# Altium integrated library Analog Devices Data Converters Analog-to-Digital Converters.IntLib: 2404 symbols (part 96 of 346)
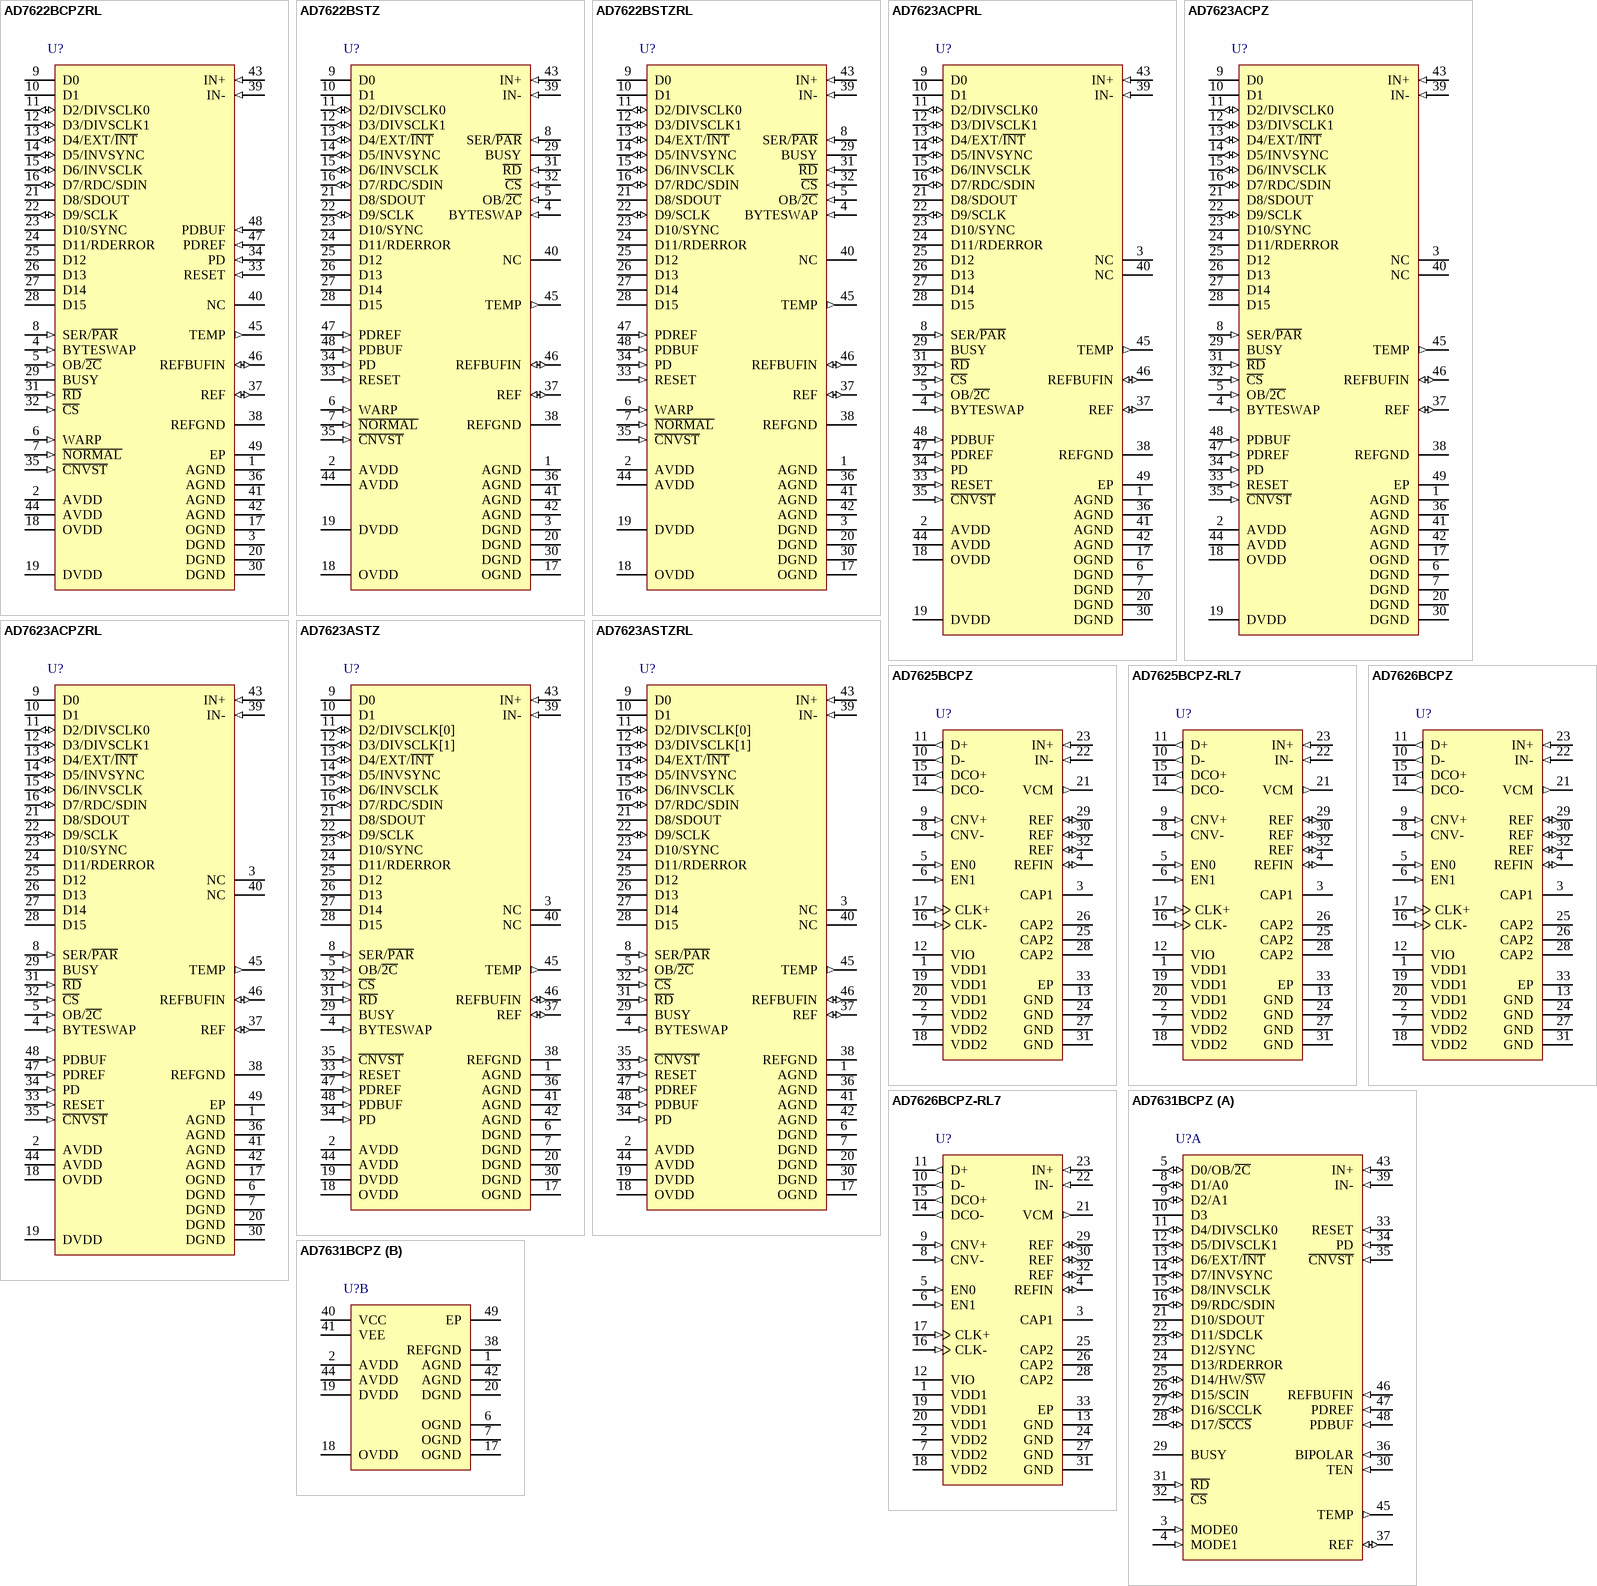
[diagram p208: symbols AD7622BCPZRL to AD7631BCPZ]

## AD7623ACPRL
designator U?
Single 16-Bit PulSAR Analog-to-Digital Converter with Byte, Parallel, Serial, SPI Interface, 1.33MSPS, -40 to +85 degC, CP-48-1, pb-Free, Reel; Generic Part Number: AD7623; Manufacturer: Analog Devices; PartNumber: AD7623ACPRL; Resolution (Bits): 16; Channels: 1; Throughput Rate (SPS): 1.33M; Interface: Byte, Par, Ser, SPI; DatasheetVersion: Rev.0; PackageVersion: Jan-2005; PackageReference: CP-48-1; PackageDescription: 48-Lead Lead Frame Chip Scale Package [LFCSP_VQ] 7 x 7 mm Body, Very Thin Quad; RoHS: N; Packing: Reel; Mounting Technology: Surface Mount; Code_JEDEC: MO-220-VKKD-2; ComponentLink1Description: Manufacturer URL; ComponentLink1URL: http://www.analog.com/en/index.html; ComponentLink2Description: Datasheet; ComponentLink2URL: http://www.analog.com/static/imported-files/data_sheets/AD7623.pdf; ComponentLink3Description: Package Specification; ComponentLink3URL: http://www.analog.com/static/imported-files/packages/PKG_PDF/LFCSP(CP)/CP-48/CP_48_1.pdf; ComponentLink4Description: Product URL; ComponentLink4URL: http://www.analog.com/en/analog-to-digital-converters/ad-converters/ad7623/products/product.html
footprint CP-48-1_N (QFN, 48-Leads, Body 7x7mm, Pitch 0.5mm, Thermal Pad 5.1x5.1mm, IPC Medium Density)
footprint CP-48-1_L (QFN, 48-Leads, Body 7x7mm, Pitch 0.5mm, Thermal Pad 5.1x5.1mm, IPC High Density)
footprint CP-48-1_M (QFN, 48-Leads, Body 7x7mm, Pitch 0.5mm, Thermal Pad 5.1x5.1mm, IPC Low Density)
pins: 1 AGND (power) "Analog Power Ground Pin.", 2 AVDD (power) "Input Analog Power Pins. Nominally 2.5 V.", 3 NC "No Connect.", 4 BYTESWAP (in) "Parallel Mode Selection (8-Bit/16-Bit). When high, the LSB is output on D[15:8] and the MSB is output on D[7:0]; when low, the LSB is output on D[7:0] and the MSB is output on D[15:8].", 5 OB/~{2C} (in) "Straight Binary/Binary Twos Complement Output. When high, the digital output is straight binary; when low, the MSB is inverted resulting in a twos complement output from its internal shift register.", 6 DGND (power) "Digital Power Ground.", 7 DGND (power) "Digital Power Ground.", 8 SER/~{PAR} (in) "Serial/Parallel Selection Input. When high, the serial interface is selected and some bits of the data bus are used as a serial port; the remaining data bits are high impedance outputs. When SER/P\A\R\ = low, the parallel (See Datasheet)", 9 D0 (hiz) "Bit 0 of the Parallel Port Data Output Bus.", 10 D1 (hiz) "Bit 1 of the Parallel Port Data Output Bus.", 11 D2/DIVSCLK0 (io) "When SER/P\A\R\ = low, these outputs are used as Bit 2 and Bit 3 of the parallel port data output bus.When SER/P\A\R\ = high, serial clock division selection. When using serial master read after convert mode (EXT/I\N\T\ = (See Datasheet)", 12 D3/DIVSCLK1 (io) "When SER/P\A\R\ = low, these outputs are used as Bit 2 and Bit 3 of the parallel port data output bus.When SER/P\A\R\ = high, serial clock division selection. When using serial master read after convert mode (EXT/I\N\T\ = (See Datasheet)", 13 D4/EXT/~{INT} (io) "When SER/P\A\R\ = low, this output is used as Bit 4 of the parallel port data output bus.When SER/P\A\R\ = high, serial clock source select. This input is used to select the internally generated (master ) or external (slave) (See Datasheet)", 14 D5/INVSYNC (io) "When SER/P\A\R\ = low, this output is used as Bit 5 of the parallel port data output bus.When SER/P\A\R\ = high, invert sync select. In serial master mode (EXT/I\N\T\ = low), this input is used to select the active state of (See Datasheet)", 15 D6/INVSCLK (io) "When SER/P\A\R\ = low, this output is used as Bit 6 of the parallel port data output bus.Invert SCLK Select. In all serial modes, this input is used to invert the SCLK signal.", 16 D7/RDC/SDIN (io) "Bit 7 of the Parallel Port Data Output Bus.When SER/P\A\R\ = high, read during convert. When using serial master mode (EXT/INT = low), RDC is used to select the read mode.When RDC = high, the previous conversion result is (See Datasheet)", 17 OGND (power) "Input/Output Interface Digital Power Ground.", 18 OVDD (power) "Input/Output Interface Digital Power. Nominally at the same supply as the supply of the host interface (2.5 V or 3 V).", 19 DVDD (power) "Digital Power. Nominally at 2.5 V.", 20 DGND (power) "Digital Power Ground.", 21 D8/SDOUT (hiz) "When SER/P\A\R\ = low, this output is used as Bit 8 of the parallel port data output bus.When SER/P\A\R\ = high, serial data output. In serial mode, this pin is used as the serial data output synchronized to SCLK. Conversion (See Datasheet)", 22 D9/SCLK (io) "Parallel Port Data Output Bus Bit 9. When SER/P\A\R\ = low, this output is used as Bit 9 of the parallel port data output bus.Serial Clock. When SER/P\A\R\ = high, serial clock. In all serial modes, this pin is used as the (See Datasheet)", 23 D10/SYNC (hiz) "When SER/P\A\R\ = low, this output is used as Bit 10 of the parallel port data output bus.When SER/P\A\R\ = high, frame synchronization. In serial master mode (EXT/I\N\T\= low), this output is used as a digital output frame (See Datasheet)", 24 D11/RDERROR (hiz) "Parallel Port Data Output Bus Bit 11. When SER/P\A\R\ = low, this output is used as Bit 11 of the parallel port data output bus.Read Error. When SER/P\A\R\ = high, read error. In serial slave mode (EXT/I\N\T\ = high), this (See Datasheet)", 25 D12 (hiz) "Bit 12 of the Parallel Port Data Output Bus.", 26 D13 (hiz) "Bit 13 of the Parallel Port Data Output Bus.", 27 D14 (hiz) "Bit 14 of the Parallel Port Data Output Bus.", 28 D15 (hiz) "Bit 15 of the Parallel Port Data Output Bus.", 29 BUSY (hiz) "Busy Output. Transitions high when a conversion is started, and remains high until the conversion is complete and the data is latched into the on-chip shift register. The falling edge of BUSY can be used as a data ready (See Datasheet)", 30 DGND (power) "Digital Power Ground.", 31 ~{RD} (in) "Read Data. When C\S\ and R\D\ are both low, the interface parallel or serial output bus is enabled.", 32 ~{CS} (in) "Chip Select. When C\S\ and R\D\ are both low, the interface parallel or serial output bus is enabled.C\S\ is also used to gate the external clock in slave serial mode.", 33 RESET (in) "Reset Input. When high, reset the AD7623. Current conversion if any is aborted. Falling edge of RESET enables the calibration mode indicated by pulsing BUSY high. Refer to the Digital Interface section. If not used, this pin (See Datasheet)", 34 PD (in) "Power-Down Input. When high, power down the ADC. Power consumption is reduced and conversions are inhibited after the current one is completed.", 35 ~{CNVST} (in) "Conversion Start. A falling edge on C\N\V\S\T\ puts the internal sample-and-hold into the hold state and initiates a conversion.", 36 AGND (power) "Analog Power Ground Pin.", 37 REF (io) "Reference Output/Input. When PDREF/PDBUF = low, the internal reference and buffer are enabled, producing 2.048 V on this pin. When PDREF/PDBUF = high, the internal reference and buffer are disabled, allowing an externally (See Datasheet)", 38 REFGND (power) "Reference Input Analog Ground.", 39 IN- (in) "Differential Negative Analog Input.", 40 NC "No Connect.", 41 AGND (power) "Analog Power Ground Pin.", 42 AGND (power) "Analog Power Ground Pin.", 43 IN+ (in) "Differential Positive Analog Input.", 44 AVDD (power) "Input Analog Power Pins. Nominally 2.5 V.", 45 TEMP (out) "Temperature Sensor Analog Output.", 46 REFBUFIN (io) "Internal Reference Output/Reference Buffer Input. When PDREF/PDBUF = low, the internal reference and buffer are enabled, producing the 1.2 V (typical) band gap output on this pin, which needs external decoupling. The (See Datasheet)", 47 PDREF (in) "Internal Reference Power-Down Input. When low, the internal reference is enabled. When high, the internal reference is powered down, and an external reference must be used.", 48 PDBUF (in) "Internal Reference Buffer Power-Down Input. When low, the buffer is enabled (must be low when using internal reference). When high, the buffer is powered-down.", 49 EP (power) "Paddle connected to GND.This connection is not required to meet the electrical performances."

## AD7623ACPZ
designator U?
Single 16-Bit PulSAR Analog-to-Digital Converter with Byte, Parallel, Serial, SPI Interface, 1.33MSPS, -40 to +85 degC, CP-48-1, Pb-Free, Tray; Generic Part Number: AD7623; Manufacturer: Analog Devices; PartNumber: AD7623ACPZ; Resolution (Bits): 16; Channels: 1; Throughput Rate (SPS): 1.33M; Interface: Byte, Par, Ser, SPI; DatasheetVersion: Rev.0; PackageVersion: Jan-2005; PackageReference: CP-48-1; PackageDescription: 48-Lead Lead Frame Chip Scale Package [LFCSP_VQ] 7 x 7 mm Body, Very Thin Quad; Supplier 1: Digi-Key; Supplier Part Number 1: AD7623ACPZ-ND; Supplier 2: Mouser; Supplier Part Number 2: 584-AD7623ACPZ; RoHS: Y; Packing: Tray; Mounting Technology: Surface Mount; Code_JEDEC: MO-220-VKKD-2; ComponentLink1Description: Manufacturer URL; ComponentLink1URL: http://www.analog.com/en/index.html; ComponentLink2Description: Datasheet; ComponentLink2URL: http://www.analog.com/static/imported-files/data_sheets/AD7623.pdf; ComponentLink3Description: Package Specification; ComponentLink3URL: http://www.analog.com/static/imported-files/packages/PKG_PDF/LFCSP(CP)/CP-48/CP_48_1.pdf; ComponentLink4Description: Product URL; ComponentLink4URL: http://www.analog.com/en/analog-to-digital-converters/ad-converters/ad7623/products/product.html
footprint CP-48-1_N (QFN, 48-Leads, Body 7x7mm, Pitch 0.5mm, Thermal Pad 5.1x5.1mm, IPC Medium Density)
footprint CP-48-1_L (QFN, 48-Leads, Body 7x7mm, Pitch 0.5mm, Thermal Pad 5.1x5.1mm, IPC High Density)
footprint CP-48-1_M (QFN, 48-Leads, Body 7x7mm, Pitch 0.5mm, Thermal Pad 5.1x5.1mm, IPC Low Density)
pins: 1 AGND (power) "Analog Power Ground Pin.", 2 AVDD (power) "Input Analog Power Pins. Nominally 2.5 V.", 3 NC "No Connect.", 4 BYTESWAP (in) "Parallel Mode Selection (8-Bit/16-Bit). When high, the LSB is output on D[15:8] and the MSB is output on D[7:0]; when low, the LSB is output on D[7:0] and the MSB is output on D[15:8].", 5 OB/~{2C} (in) "Straight Binary/Binary Twos Complement Output. When high, the digital output is straight binary; when low, the MSB is inverted resulting in a twos complement output from its internal shift register.", 6 DGND (power) "Digital Power Ground.", 7 DGND (power) "Digital Power Ground.", 8 SER/~{PAR} (in) "Serial/Parallel Selection Input. When high, the serial interface is selected and some bits of the data bus are used as a serial port; the remaining data bits are high impedance outputs. When SER/P\A\R\ = low, the parallel (See Datasheet)", 9 D0 (hiz) "Bit 0 of the Parallel Port Data Output Bus.", 10 D1 (hiz) "Bit 1 of the Parallel Port Data Output Bus.", 11 D2/DIVSCLK0 (io) "When SER/P\A\R\ = low, these outputs are used as Bit 2 and Bit 3 of the parallel port data output bus.When SER/P\A\R\ = high, serial clock division selection. When using serial master read after convert mode (EXT/I\N\T\ = (See Datasheet)", 12 D3/DIVSCLK1 (io) "When SER/P\A\R\ = low, these outputs are used as Bit 2 and Bit 3 of the parallel port data output bus.When SER/P\A\R\ = high, serial clock division selection. When using serial master read after convert mode (EXT/I\N\T\ = (See Datasheet)", 13 D4/EXT/~{INT} (io) "When SER/P\A\R\ = low, this output is used as Bit 4 of the parallel port data output bus.When SER/P\A\R\ = high, serial clock source select. This input is used to select the internally generated (master ) or external (slave) (See Datasheet)", 14 D5/INVSYNC (io) "When SER/P\A\R\ = low, this output is used as Bit 5 of the parallel port data output bus.When SER/P\A\R\ = high, invert sync select. In serial master mode (EXT/I\N\T\ = low), this input is used to select the active state of (See Datasheet)", 15 D6/INVSCLK (io) "When SER/P\A\R\ = low, this output is used as Bit 6 of the parallel port data output bus.Invert SCLK Select. In all serial modes, this input is used to invert the SCLK signal.", 16 D7/RDC/SDIN (io) "Bit 7 of the Parallel Port Data Output Bus.When SER/P\A\R\ = high, read during convert. When using serial master mode (EXT/INT = low), RDC is used to select the read mode.When RDC = high, the previous conversion result is (See Datasheet)", 17 OGND (power) "Input/Output Interface Digital Power Ground.", 18 OVDD (power) "Input/Output Interface Digital Power. Nominally at the same supply as the supply of the host interface (2.5 V or 3 V).", 19 DVDD (power) "Digital Power. Nominally at 2.5 V.", 20 DGND (power) "Digital Power Ground.", 21 D8/SDOUT (hiz) "When SER/P\A\R\ = low, this output is used as Bit 8 of the parallel port data output bus.When SER/P\A\R\ = high, serial data output. In serial mode, this pin is used as the serial data output synchronized to SCLK. Conversion (See Datasheet)", 22 D9/SCLK (io) "Parallel Port Data Output Bus Bit 9. When SER/P\A\R\ = low, this output is used as Bit 9 of the parallel port data output bus.Serial Clock. When SER/P\A\R\ = high, serial clock. In all serial modes, this pin is used as the (See Datasheet)", 23 D10/SYNC (hiz) "When SER/P\A\R\ = low, this output is used as Bit 10 of the parallel port data output bus.When SER/P\A\R\ = high, frame synchronization. In serial master mode (EXT/I\N\T\= low), this output is used as a digital output frame (See Datasheet)", 24 D11/RDERROR (hiz) "Parallel Port Data Output Bus Bit 11. When SER/P\A\R\ = low, this output is used as Bit 11 of the parallel port data output bus.Read Error. When SER/P\A\R\ = high, read error. In serial slave mode (EXT/I\N\T\ = high), this (See Datasheet)", 25 D12 (hiz) "Bit 12 of the Parallel Port Data Output Bus.", 26 D13 (hiz) "Bit 13 of the Parallel Port Data Output Bus.", 27 D14 (hiz) "Bit 14 of the Parallel Port Data Output Bus.", 28 D15 (hiz) "Bit 15 of the Parallel Port Data Output Bus.", 29 BUSY (hiz) "Busy Output. Transitions high when a conversion is started, and remains high until the conversion is complete and the data is latched into the on-chip shift register. The falling edge of BUSY can be used as a data ready (See Datasheet)", 30 DGND (power) "Digital Power Ground.", 31 ~{RD} (in) "Read Data. When C\S\ and R\D\ are both low, the interface parallel or serial output bus is enabled.", 32 ~{CS} (in) "Chip Select. When C\S\ and R\D\ are both low, the interface parallel or serial output bus is enabled.C\S\ is also used to gate the external clock in slave serial mode.", 33 RESET (in) "Reset Input. When high, reset the AD7623. Current conversion if any is aborted. Falling edge of RESET enables the calibration mode indicated by pulsing BUSY high. Refer to the Digital Interface section. If not used, this pin (See Datasheet)", 34 PD (in) "Power-Down Input. When high, power down the ADC. Power consumption is reduced and conversions are inhibited after the current one is completed.", 35 ~{CNVST} (in) "Conversion Start. A falling edge on C\N\V\S\T\ puts the internal sample-and-hold into the hold state and initiates a conversion.", 36 AGND (power) "Analog Power Ground Pin.", 37 REF (io) "Reference Output/Input. When PDREF/PDBUF = low, the internal reference and buffer are enabled, producing 2.048 V on this pin. When PDREF/PDBUF = high, the internal reference and buffer are disabled, allowing an externally (See Datasheet)", 38 REFGND (power) "Reference Input Analog Ground.", 39 IN- (in) "Differential Negative Analog Input.", 40 NC "No Connect.", 41 AGND (power) "Analog Power Ground Pin.", 42 AGND (power) "Analog Power Ground Pin.", 43 IN+ (in) "Differential Positive Analog Input.", 44 AVDD (power) "Input Analog Power Pins. Nominally 2.5 V.", 45 TEMP (out) "Temperature Sensor Analog Output.", 46 REFBUFIN (io) "Internal Reference Output/Reference Buffer Input. When PDREF/PDBUF = low, the internal reference and buffer are enabled, producing the 1.2 V (typical) band gap output on this pin, which needs external decoupling. The (See Datasheet)", 47 PDREF (in) "Internal Reference Power-Down Input. When low, the internal reference is enabled. When high, the internal reference is powered down, and an external reference must be used.", 48 PDBUF (in) "Internal Reference Buffer Power-Down Input. When low, the buffer is enabled (must be low when using internal reference). When high, the buffer is powered-down.", 49 EP (power) "Paddle connected to GND.This connection is not required to meet the electrical performances."

## AD7623ACPZRL
designator U?
Single 16-Bit PulSAR Analog-to-Digital Converter with Byte, Parallel, Serial, SPI Interface, 1.33MSPS, -40 to +85 degC, CP-48-1, Pb-Free, Reel; Generic Part Number: AD7623; Manufacturer: Analog Devices; PartNumber: AD7623ACPZRL; Resolution (Bits): 16; Channels: 1; Throughput Rate (SPS): 1.33M; Interface: Byte, Par, Ser, SPI; DatasheetVersion: Rev.0; PackageVersion: Jan-2005; PackageReference: CP-48-1; PackageDescription: 48-Lead Lead Frame Chip Scale Package [LFCSP_VQ] 7 x 7 mm Body, Very Thin Quad; Supplier 1: Digi-Key; Supplier Part Number 1: AD7623ACPZRL-ND; Supplier 2: Mouser; Supplier Part Number 2: 584-AD7623ACPZR; RoHS: Y; Packing: Reel; Mounting Technology: Surface Mount; Code_JEDEC: MO-220-VKKD-2; ComponentLink1Description: Manufacturer URL; ComponentLink1URL: http://www.analog.com/en/index.html; ComponentLink2Description: Datasheet; ComponentLink2URL: http://www.analog.com/static/imported-files/data_sheets/AD7623.pdf; ComponentLink3Description: Package Specification; ComponentLink3URL: http://www.analog.com/static/imported-files/packages/PKG_PDF/LFCSP(CP)/CP-48/CP_48_1.pdf; ComponentLink4Description: Product URL; ComponentLink4URL: http://www.analog.com/en/analog-to-digital-converters/ad-converters/ad7623/products/product.html
footprint CP-48-1_N (QFN, 48-Leads, Body 7x7mm, Pitch 0.5mm, Thermal Pad 5.1x5.1mm, IPC Medium Density)
footprint CP-48-1_L (QFN, 48-Leads, Body 7x7mm, Pitch 0.5mm, Thermal Pad 5.1x5.1mm, IPC High Density)
footprint CP-48-1_M (QFN, 48-Leads, Body 7x7mm, Pitch 0.5mm, Thermal Pad 5.1x5.1mm, IPC Low Density)
pins: 1 AGND (power) "Analog Power Ground Pin.", 2 AVDD (power) "Input Analog Power Pins. Nominally 2.5 V.", 3 NC "No Connect.", 4 BYTESWAP (in) "Parallel Mode Selection (8-Bit/16-Bit). When high, the LSB is output on D[15:8] and the MSB is output on D[7:0]; when low, the LSB is output on D[7:0] and the MSB is output on D[15:8].", 5 OB/~{2C} (in) "Straight Binary/Binary Twos Complement Output. When high, the digital output is straight binary; when low, the MSB is inverted resulting in a twos complement output from its internal shift register.", 6 DGND (power) "Digital Power Ground.", 7 DGND (power) "Digital Power Ground.", 8 SER/~{PAR} (in) "Serial/Parallel Selection Input. When high, the serial interface is selected and some bits of the data bus are used as a serial port; the remaining data bits are high impedance outputs. When SER/P\A\R\ = low, the parallel (See Datasheet)", 9 D0 (hiz) "Bit 0 of the Parallel Port Data Output Bus.", 10 D1 (hiz) "Bit 1 of the Parallel Port Data Output Bus.", 11 D2/DIVSCLK0 (io) "When SER/P\A\R\ = low, these outputs are used as Bit 2 and Bit 3 of the parallel port data output bus.When SER/P\A\R\ = high, serial clock division selection. When using serial master read after convert mode (EXT/I\N\T\ = (See Datasheet)", 12 D3/DIVSCLK1 (io) "When SER/P\A\R\ = low, these outputs are used as Bit 2 and Bit 3 of the parallel port data output bus.When SER/P\A\R\ = high, serial clock division selection. When using serial master read after convert mode (EXT/I\N\T\ = (See Datasheet)", 13 D4/EXT/~{INT} (io) "When SER/P\A\R\ = low, this output is used as Bit 4 of the parallel port data output bus.When SER/P\A\R\ = high, serial clock source select. This input is used to select the internally generated (master ) or external (slave) (See Datasheet)", 14 D5/INVSYNC (io) "When SER/P\A\R\ = low, this output is used as Bit 5 of the parallel port data output bus.When SER/P\A\R\ = high, invert sync select. In serial master mode (EXT/I\N\T\ = low), this input is used to select the active state of (See Datasheet)", 15 D6/INVSCLK (io) "When SER/P\A\R\ = low, this output is used as Bit 6 of the parallel port data output bus.Invert SCLK Select. In all serial modes, this input is used to invert the SCLK signal.", 16 D7/RDC/SDIN (io) "Bit 7 of the Parallel Port Data Output Bus.When SER/P\A\R\ = high, read during convert. When using serial master mode (EXT/INT = low), RDC is used to select the read mode.When RDC = high, the previous conversion result is (See Datasheet)", 17 OGND (power) "Input/Output Interface Digital Power Ground.", 18 OVDD (power) "Input/Output Interface Digital Power. Nominally at the same supply as the supply of the host interface (2.5 V or 3 V).", 19 DVDD (power) "Digital Power. Nominally at 2.5 V.", 20 DGND (power) "Digital Power Ground.", 21 D8/SDOUT (hiz) "When SER/P\A\R\ = low, this output is used as Bit 8 of the parallel port data output bus.When SER/P\A\R\ = high, serial data output. In serial mode, this pin is used as the serial data output synchronized to SCLK. Conversion (See Datasheet)", 22 D9/SCLK (io) "Parallel Port Data Output Bus Bit 9. When SER/P\A\R\ = low, this output is used as Bit 9 of the parallel port data output bus.Serial Clock. When SER/P\A\R\ = high, serial clock. In all serial modes, this pin is used as the (See Datasheet)", 23 D10/SYNC (hiz) "When SER/P\A\R\ = low, this output is used as Bit 10 of the parallel port data output bus.When SER/P\A\R\ = high, frame synchronization. In serial master mode (EXT/I\N\T\= low), this output is used as a digital output frame (See Datasheet)", 24 D11/RDERROR (hiz) "Parallel Port Data Output Bus Bit 11. When SER/P\A\R\ = low, this output is used as Bit 11 of the parallel port data output bus.Read Error. When SER/P\A\R\ = high, read error. In serial slave mode (EXT/I\N\T\ = high), this (See Datasheet)", 25 D12 (hiz) "Bit 12 of the Parallel Port Data Output Bus.", 26 D13 (hiz) "Bit 13 of the Parallel Port Data Output Bus.", 27 D14 (hiz) "Bit 14 of the Parallel Port Data Output Bus.", 28 D15 (hiz) "Bit 15 of the Parallel Port Data Output Bus.", 29 BUSY (hiz) "Busy Output. Transitions high when a conversion is started, and remains high until the conversion is complete and the data is latched into the on-chip shift register. The falling edge of BUSY can be used as a data ready (See Datasheet)", 30 DGND (power) "Digital Power Ground.", 31 ~{RD} (in) "Read Data. When C\S\ and R\D\ are both low, the interface parallel or serial output bus is enabled.", 32 ~{CS} (in) "Chip Select. When C\S\ and R\D\ are both low, the interface parallel or serial output bus is enabled.C\S\ is also used to gate the external clock in slave serial mode.", 33 RESET (in) "Reset Input. When high, reset the AD7623. Current conversion if any is aborted. Falling edge of RESET enables the calibration mode indicated by pulsing BUSY high. Refer to the Digital Interface section. If not used, this pin (See Datasheet)", 34 PD (in) "Power-Down Input. When high, power down the ADC. Power consumption is reduced and conversions are inhibited after the current one is completed.", 35 ~{CNVST} (in) "Conversion Start. A falling edge on C\N\V\S\T\ puts the internal sample-and-hold into the hold state and initiates a conversion.", 36 AGND (power) "Analog Power Ground Pin.", 37 REF (io) "Reference Output/Input. When PDREF/PDBUF = low, the internal reference and buffer are enabled, producing 2.048 V on this pin. When PDREF/PDBUF = high, the internal reference and buffer are disabled, allowing an externally (See Datasheet)", 38 REFGND (power) "Reference Input Analog Ground.", 39 IN- (in) "Differential Negative Analog Input.", 40 NC "No Connect.", 41 AGND (power) "Analog Power Ground Pin.", 42 AGND (power) "Analog Power Ground Pin.", 43 IN+ (in) "Differential Positive Analog Input.", 44 AVDD (power) "Input Analog Power Pins. Nominally 2.5 V.", 45 TEMP (out) "Temperature Sensor Analog Output.", 46 REFBUFIN (io) "Internal Reference Output/Reference Buffer Input. When PDREF/PDBUF = low, the internal reference and buffer are enabled, producing the 1.2 V (typical) band gap output on this pin, which needs external decoupling. The (See Datasheet)", 47 PDREF (in) "Internal Reference Power-Down Input. When low, the internal reference is enabled. When high, the internal reference is powered down, and an external reference must be used.", 48 PDBUF (in) "Internal Reference Buffer Power-Down Input. When low, the buffer is enabled (must be low when using internal reference). When high, the buffer is powered-down.", 49 EP (power) "Paddle connected to GND.This connection is not required to meet the electrical performances."

## AD7623ASTZ
designator U?
Single 16-Bit PulSAR Analog-to-Digital Converter with Byte, Parallel, Serial, SPI Interface, 1.33MSPS, -40 to +85 degC, ST-48, Pb-Free, Tray; Generic Part Number: AD7623; Manufacturer: Analog Devices; PartNumber: AD7623ASTZ; Resolution (Bits): 16; Channels: 1; Throughput Rate (SPS): 1.33M; Interface: Byte, Par, Ser, SPI; DatasheetVersion: Rev.0; PackageVersion: revA; PackageReference: ST-48; PackageDescription: 48-Pin Thin Quad Flat Pack 0.5 mm Pitch; Supplier 1: Digi-Key; Supplier Part Number 1: AD7623ASTZ-ND; Supplier 2: Mouser; Supplier Part Number 2: 584-AD7623ASTZ; RoHS: Y; Packing: Tray; Mounting Technology: Surface Mount; ComponentLink1Description: Manufacturer URL; ComponentLink1URL: http://www.analog.com/en/index.html; ComponentLink2Description: Datasheet; ComponentLink2URL: http://www.analog.com/static/imported-files/data_sheets/AD7623.pdf; ComponentLink3Description: Package Specification; ComponentLink3URL: http://www.analog.com/static/imported-files/packages/PKG_PDF/LQFP%28ST%29/ST_48.pdf; ComponentLink4Description: Product URL; ComponentLink4URL: http://www.analog.com/en/analog-to-digital-converters/ad-converters/ad7623/products/product.html
footprint ST-48_N (Thin QFP, 48-Leads, Body 7x7mm, Pitch 0.5mm, IPC Medium Density)
footprint ST-48_L (Thin QFP, 48-Leads, Body 7x7mm, Pitch 0.5mm, IPC High Density)
footprint ST-48_M (Thin QFP, 48-Leads, Body 7x7mm, Pitch 0.5mm, IPC Low Density)
pins: 1 AGND (power) "Analog Power Ground Pin.", 2 AVDD (power) "Input Analog Power Pins. Nominally 2.5 V.", 3 NC "No Connect.", 4 BYTESWAP (in) "Parallel Mode Selection (8-Bit/16-Bit). When high, the LSB is output on D[15:8] and the MSB is output on D[7:0]; when low, the LSB is output on D[7:0] and the MSB is output on D[15:8].", 5 OB/~{2C} (in) "Straight Binary/Binary Twos Complement Output. When high, the digital output is straight binary; when low, the MSB is inverted resulting in a twos complement output from its internal shift register.", 6 DGND (power) "Digital Power Ground.", 7 DGND (power) "Digital Power Ground.", 8 SER/~{PAR} (in) "Serial/Parallel Selection Input. When high, the serial interface is selected and some bits of the data bus are used as a serial port; the remaining data bits are high impedance outputs. When SER/P\A\R\ = low, the parallel (See Datasheet)", 9 D0 (hiz) "Bit 0 and Bit 1 of the Parallel Port Data Output Bus.", 10 D1 (hiz) "Bit 0 and Bit 1 of the Parallel Port Data Output Bus.", 11 D2/DIVSCLK[0] (io) "When SER/P\A\R\ = low, these outputs are used as Bit 2 and Bit 3 of the parallel port data output bus.When SER/P\A\R\= high, serial clock division selection. When using serial master read after convert mode (EXT/I\N\T\ = (See Datasheet)", 12 D3/DIVSCLK[1] (io) "When SER/P\A\R\ = low, these outputs are used as Bit 2 and Bit 3 of the parallel port data output bus.When SER/P\A\R\= high, serial clock division selection. When using serial master read after convert mode (EXT/I\N\T\ = (See Datasheet)", 13 D4/EXT/~{INT} (io) "When SER/P\A\R\ = low, this output is used as Bit 4 of the parallel port data output bus. When SER/P\A\R\ = high, serial clock source select. This input is used to select the internally generated (master ) or external (See Datasheet)", 14 D5/INVSYNC (io) "When SER/P\A\R\ = low, this output is used as Bit 5 of the parallel port data output bus. When SER/P\A\R\ = high, invert sync select. In serial master mode (EXT/I\N\T\ = low), this input is used to select the active state of (See Datasheet)", 15 D6/INVSCLK (io) "When SER/P\A\R\ = low, this output is used as Bit 6 of the parallel port data output bus. Invert SCLK Select. In all serial modes, this input is used to invert the SCLK signal.", 16 D7/RDC/SDIN (io) "Bit 7 of the Parallel Port Data Output Bus. When SER/P\A\R\ = high, read during convert. When using serial master mode (EXT/INT = low), RDC is used to select the read mode. When RDC = high, the previous conversion result is (See Datasheet)", 17 OGND (power) "Input/Output Interface Digital Power Ground.", 18 OVDD (power) "Input/Output Interface Digital Power. Nominally at the same supply as the supply of the host interface (2.5 V or 3 V).", 19 DVDD (power) "Digital Power. Nominally at 2.5 V.", 20 DGND (power) "Digital Power Ground.", 21 D8/SDOUT (hiz) "When SER/P\A\R\ = low, this output is used as Bit 8 of the parallel port data output bus. When SER/P\A\R\ = high, serial data output. In serial mode, this pin is used as the serial data output synchronized to SCLK. (See Datasheet)", 22 D9/SCLK (io) "Parallel Port Data Output Bus Bit 9. When SER/P\A\R\ = low, this output is used as Bit 9 of the parallel port data output bus. Serial Clock. When SER/P\A\R\ = high, serial clock. In all serial modes, this pin is used as the (See Datasheet)", 23 D10/SYNC (hiz) "When SER/P\A\R\ = low, this output is used as Bit 10 of the parallel port data output bus. When SER/P\A\R\ = high, frame synchronization. In serial master mode (EXT/I\N\T\= low), this output is used as a digital output frame (See Datasheet)", 24 D11/RDERROR (hiz) "Parallel Port Data Output Bus Bit 11. When SER/P\A\R\ = low, this output is used as Bit 11 of the parallel port data output bus. Read Error. When SER/PAR = high, read error. In serial slave mode (EXT/I\N\T\ = high), this (See Datasheet)", 25 D12 (hiz) "Bit 12 to Bit 15 of the Parallel Port Data Output Bus.", 26 D13 (hiz) "Bit 12 to Bit 15 of the Parallel Port Data Output Bus.", 27 D14 (hiz) "Bit 12 to Bit 15 of the Parallel Port Data Output Bus.", 28 D15 (hiz) "Bit 12 to Bit 15 of the Parallel Port Data Output Bus.", 29 BUSY (hiz) "Busy Output. Transitions high when a conversion is started, and remains high until the conversion is complete and the data is latched into the on-chip shift register. The falling edge of BUSY can be used as a data ready (See Datasheet)", 30 DGND (power) "Digital Power Ground.", 31 ~{RD} (in) "Read Data. When C\S\ and R\D\ are both low, the interface parallel or serial output bus is enabled.", 32 ~{CS} (in) "Chip Select. When C\S\ and R\D\ are both low, the interface parallel or serial output bus is enabled. C\S\ is also used to gate the external clock in slave serial mode.", 33 RESET (in) "Reset Input. When high, reset the AD7623. Current conversion if any is aborted. Falling edge of RESET enables the calibration mode indicated by pulsing BUSY high. Refer to the Digital Interface section. If not used, this pin (See Datasheet)", 34 PD (in) "Power-Down Input. When high, power down the ADC. Power consumption is reduced and conversions are inhibited after the current one is completed.", 35 ~{CNVST} (in) "Conversion Start. A falling edge on CNVST puts the internal sample-and-hold into the hold state and initiates a conversion.", 36 AGND (power) "Analog Power Ground Pin.", 37 REF (io) "Reference Output/Input. When PDREF/PDBUF = low, the internal reference and buffer are enabled, producing 2.048 V on this pin. When PDREF/PDBUF = high, the internal reference and buffer are disabled, allowing an externally (See Datasheet)", 38 REFGND (power) "Reference Input Analog Ground.", 39 IN- (in) "Differential Negative Analog Input.", 40 NC "No Connect.", 41 AGND (power) "Analog Power Ground Pin.", 42 AGND (power) "Analog Power Ground Pin.", 43 IN+ (in) "Differential Positive Analog Input.", 44 AVDD (power) "Input Analog Power Pins. Nominally 2.5 V.", 45 TEMP (out) "Temperature Sensor Analog Output.", 46 REFBUFIN (io) "Internal Reference Output/Reference Buffer Input. When PDREF/PDBUF = low, the internal reference and buffer are enabled, producing the 1.2 V (typical) band gap output on this pin, which needs external decoupling. The (See Datasheet)", 47 PDREF (in) "Internal Reference Power-Down Input. When low, the internal reference is enabled. When high, the internal reference is powered down, and an external reference must be used.", 48 PDBUF (in) "Internal Reference Buffer Power-Down Input. When low, the buffer is enabled (must be low when using internal reference). When high, the buffer is powered-down."

## AD7623ASTZRL
designator U?
Single 16-Bit PulSAR Analog-to-Digital Converter with Byte, Parallel, Serial, SPI Interface, 1.33MSPS, -40 to +85 degC, ST-48, Pb-Free, Reel; Generic Part Number: AD7623; Manufacturer: Analog Devices; PartNumber: AD7623ASTZRL; Resolution (Bits): 16; Channels: 1; Throughput Rate (SPS): 1.33M; Interface: Byte, Par, Ser, SPI; DatasheetVersion: Rev.0; PackageVersion: revA; PackageReference: ST-48; PackageDescription: 48-Pin Thin Quad Flat Pack 0.5 mm Pitch; Supplier 1: Digi-Key; Supplier Part Number 1: AD7623ASTZRL-ND; Supplier 2: Mouser; Supplier Part Number 2: 584-AD7623ASTZR; RoHS: Y; Packing: Reel; Mounting Technology: Surface Mount; ComponentLink1Description: Manufacturer URL; ComponentLink1URL: http://www.analog.com/en/index.html; ComponentLink2Description: Datasheet; ComponentLink2URL: http://www.analog.com/static/imported-files/data_sheets/AD7623.pdf; ComponentLink3Description: Package Specification; ComponentLink3URL: http://www.analog.com/static/imported-files/packages/PKG_PDF/LQFP%28ST%29/ST_48.pdf; ComponentLink4Description: Product URL; ComponentLink4URL: http://www.analog.com/en/analog-to-digital-converters/ad-converters/ad7623/products/product.html
footprint ST-48_N (Thin QFP, 48-Leads, Body 7x7mm, Pitch 0.5mm, IPC Medium Density)
footprint ST-48_L (Thin QFP, 48-Leads, Body 7x7mm, Pitch 0.5mm, IPC High Density)
footprint ST-48_M (Thin QFP, 48-Leads, Body 7x7mm, Pitch 0.5mm, IPC Low Density)
pins: 1 AGND (power) "Analog Power Ground Pin.", 2 AVDD (power) "Input Analog Power Pins. Nominally 2.5 V.", 3 NC "No Connect.", 4 BYTESWAP (in) "Parallel Mode Selection (8-Bit/16-Bit). When high, the LSB is output on D[15:8] and the MSB is output on D[7:0]; when low, the LSB is output on D[7:0] and the MSB is output on D[15:8].", 5 OB/~{2C} (in) "Straight Binary/Binary Twos Complement Output. When high, the digital output is straight binary; when low, the MSB is inverted resulting in a twos complement output from its internal shift register.", 6 DGND (power) "Digital Power Ground.", 7 DGND (power) "Digital Power Ground.", 8 SER/~{PAR} (in) "Serial/Parallel Selection Input. When high, the serial interface is selected and some bits of the data bus are used as a serial port; the remaining data bits are high impedance outputs. When SER/P\A\R\ = low, the parallel (See Datasheet)", 9 D0 (hiz) "Bit 0 and Bit 1 of the Parallel Port Data Output Bus.", 10 D1 (hiz) "Bit 0 and Bit 1 of the Parallel Port Data Output Bus.", 11 D2/DIVSCLK[0] (io) "When SER/P\A\R\ = low, these outputs are used as Bit 2 and Bit 3 of the parallel port data output bus.When SER/P\A\R\= high, serial clock division selection. When using serial master read after convert mode (EXT/I\N\T\ = (See Datasheet)", 12 D3/DIVSCLK[1] (io) "When SER/P\A\R\ = low, these outputs are used as Bit 2 and Bit 3 of the parallel port data output bus.When SER/P\A\R\= high, serial clock division selection. When using serial master read after convert mode (EXT/I\N\T\ = (See Datasheet)", 13 D4/EXT/~{INT} (io) "When SER/P\A\R\ = low, this output is used as Bit 4 of the parallel port data output bus. When SER/P\A\R\ = high, serial clock source select. This input is used to select the internally generated (master ) or external (See Datasheet)", 14 D5/INVSYNC (io) "When SER/P\A\R\ = low, this output is used as Bit 5 of the parallel port data output bus. When SER/P\A\R\ = high, invert sync select. In serial master mode (EXT/I\N\T\ = low), this input is used to select the active state of (See Datasheet)", 15 D6/INVSCLK (io) "When SER/P\A\R\ = low, this output is used as Bit 6 of the parallel port data output bus. Invert SCLK Select. In all serial modes, this input is used to invert the SCLK signal.", 16 D7/RDC/SDIN (io) "Bit 7 of the Parallel Port Data Output Bus. When SER/P\A\R\ = high, read during convert. When using serial master mode (EXT/INT = low), RDC is used to select the read mode. When RDC = high, the previous conversion result is (See Datasheet)", 17 OGND (power) "Input/Output Interface Digital Power Ground.", 18 OVDD (power) "Input/Output Interface Digital Power. Nominally at the same supply as the supply of the host interface (2.5 V or 3 V).", 19 DVDD (power) "Digital Power. Nominally at 2.5 V.", 20 DGND (power) "Digital Power Ground.", 21 D8/SDOUT (hiz) "When SER/P\A\R\ = low, this output is used as Bit 8 of the parallel port data output bus. When SER/P\A\R\ = high, serial data output. In serial mode, this pin is used as the serial data output synchronized to SCLK. (See Datasheet)", 22 D9/SCLK (io) "Parallel Port Data Output Bus Bit 9. When SER/P\A\R\ = low, this output is used as Bit 9 of the parallel port data output bus. Serial Clock. When SER/P\A\R\ = high, serial clock. In all serial modes, this pin is used as the (See Datasheet)", 23 D10/SYNC (hiz) "When SER/P\A\R\ = low, this output is used as Bit 10 of the parallel port data output bus. When SER/P\A\R\ = high, frame synchronization. In serial master mode (EXT/I\N\T\= low), this output is used as a digital output frame (See Datasheet)", 24 D11/RDERROR (hiz) "Parallel Port Data Output Bus Bit 11. When SER/P\A\R\ = low, this output is used as Bit 11 of the parallel port data output bus. Read Error. When SER/PAR = high, read error. In serial slave mode (EXT/I\N\T\ = high), this (See Datasheet)", 25 D12 (hiz) "Bit 12 to Bit 15 of the Parallel Port Data Output Bus.", 26 D13 (hiz) "Bit 12 to Bit 15 of the Parallel Port Data Output Bus.", 27 D14 (hiz) "Bit 12 to Bit 15 of the Parallel Port Data Output Bus.", 28 D15 (hiz) "Bit 12 to Bit 15 of the Parallel Port Data Output Bus.", 29 BUSY (hiz) "Busy Output. Transitions high when a conversion is started, and remains high until the conversion is complete and the data is latched into the on-chip shift register. The falling edge of BUSY can be used as a data ready (See Datasheet)", 30 DGND (power) "Digital Power Ground.", 31 ~{RD} (in) "Read Data. When C\S\ and R\D\ are both low, the interface parallel or serial output bus is enabled.", 32 ~{CS} (in) "Chip Select. When C\S\ and R\D\ are both low, the interface parallel or serial output bus is enabled. C\S\ is also used to gate the external clock in slave serial mode.", 33 RESET (in) "Reset Input. When high, reset the AD7623. Current conversion if any is aborted. Falling edge of RESET enables the calibration mode indicated by pulsing BUSY high. Refer to the Digital Interface section. If not used, this pin (See Datasheet)", 34 PD (in) "Power-Down Input. When high, power down the ADC. Power consumption is reduced and conversions are inhibited after the current one is completed.", 35 ~{CNVST} (in) "Conversion Start. A falling edge on CNVST puts the internal sample-and-hold into the hold state and initiates a conversion.", 36 AGND (power) "Analog Power Ground Pin.", 37 REF (io) "Reference Output/Input. When PDREF/PDBUF = low, the internal reference and buffer are enabled, producing 2.048 V on this pin. When PDREF/PDBUF = high, the internal reference and buffer are disabled, allowing an externally (See Datasheet)", 38 REFGND (power) "Reference Input Analog Ground.", 39 IN- (in) "Differential Negative Analog Input.", 40 NC "No Connect.", 41 AGND (power) "Analog Power Ground Pin.", 42 AGND (power) "Analog Power Ground Pin.", 43 IN+ (in) "Differential Positive Analog Input.", 44 AVDD (power) "Input Analog Power Pins. Nominally 2.5 V.", 45 TEMP (out) "Temperature Sensor Analog Output.", 46 REFBUFIN (io) "Internal Reference Output/Reference Buffer Input. When PDREF/PDBUF = low, the internal reference and buffer are enabled, producing the 1.2 V (typical) band gap output on this pin, which needs external decoupling. The (See Datasheet)", 47 PDREF (in) "Internal Reference Power-Down Input. When low, the internal reference is enabled. When high, the internal reference is powered down, and an external reference must be used.", 48 PDBUF (in) "Internal Reference Buffer Power-Down Input. When low, the buffer is enabled (must be low when using internal reference). When high, the buffer is powered-down."

## AD7625BCPZ
designator U?
Single 16-Bit PulSAR Analog-to-Digital Converter with LVDS, Serial Interface, 6MSPS, -40 to +85 degC, CP-32-3, Pb-Free, Tray; Generic Part Number: AD7625; Manufacturer: Analog Devices; PartNumber: AD7625BCPZ; Resolution (Bits): 16; Channels: 1; Throughput Rate (SPS): 6M; DatasheetVersion: Rev.0; PackageVersion: Jan-2005; PackageReference: CP-32-3; PackageDescription: 32-Lead Lead Frame Chip Scale Package [LFCSP_VQ] 5 x 5 mm Body, Very Thin Quad; Supplier 1: Digi-Key; Supplier Part Number 1: AD7625BCPZ-ND; Supplier 2: Farnell; Supplier Part Number 2: 2192229; Supplier 3: Newark; Supplier Part Number 3: 45P6463; Supplier 4: Mouser; Supplier Part Number 4: 584-AD7625BCPZ; Interface: LVDS, Ser; RoHS: Y; Packing: Tray; Mounting Technology: Surface Mount; Code_JEDEC: MO-220-VHHD-2; ComponentLink1Description: Manufacturer URL; ComponentLink1URL: http://www.analog.com/en/index.html; ComponentLink2Description: Datasheet; ComponentLink2URL: http://www.analog.com/static/imported-files/data_sheets/AD7625.pdf; ComponentLink3Description: Package Specification; ComponentLink3URL: http://www.analog.com/static/imported-files/packages/32877413525511988CP_32_3.pdf; ComponentLink4Description: Product URL; ComponentLink4URL: http://www.analog.com/en/analog-to-digital-converters/ad-converters/ad7625/products/product.html
footprint CP-32-3_N (QFN, 32-Leads, Body 5x5mm, Pitch 0.5mm, Thermal Pad 3.3x3.3mm, IPC Medium Density)
footprint CP-32-3_L (QFN, 32-Leads, Body 5x5mm, Pitch 0.5mm, Thermal Pad 3.3x3.3mm, IPC High Density)
footprint CP-32-3_M (QFN, 32-Leads, Body 5x5mm, Pitch 0.5mm, Thermal Pad 3.3x3.3mm, IPC Low Density)
pins: 1 VDD1 (power) "Analog 5 V Supply. Decouple the 5 V supply with a 100 nF capacitor.", 2 VDD2 (power) "Analog 2.5 V Supply. Decouple this pin with a 100 nF capacitor. The 2.5 V supply source should supply this pin first and then be traced to the other VDD2 pins (Pin 7 and Pin 18).", 3 CAP1 "Connect this pin to a 10 nF capacitor.", 4 REFIN (io) "Prebuffer Reference Voltage. When using the internal reference, this pin outputs the band gap voltage and is nominally at 1.2 V. It can be overdriven with an external reference voltage such as the ADR280. In either internal (See Datasheet)", 5 EN0 (in) "Enable Pins. The logic levels of these pins set the operation of the device as follows:EN1 = 0, EN0 = 0: Illegal state. EN1 = 0, EN0 = 1: Enable internal buffer, disable internal reference. An external 1.2 V reference (See Datasheet)", 6 EN1 (in) "Enable Pins. The logic levels of these pins set the operation of the device as follows:EN1 = 0, EN0 = 0: Illegal state. EN1 = 0, EN0 = 1: Enable internal buffer, disable internal reference. An external 1.2 V reference (See Datasheet)", 7 VDD2 (power) "Digital 2.5 V Supply. Decouple this pin with a 100 nF capacitor.", 8 CNV- (in) "Convert Input. These pins act as the conversion control pin. On the rising edge of these pins, the analog inputs are sampled and a conversion cycle is initiated. CNV+ works as a CMOS input when CNV- is grounded; otherwise, (See Datasheet)", 9 CNV+ (in) "Convert Input. These pins act as the conversion control pin. On the rising edge of these pins, the analog inputs are sampled and a conversion cycle is initiated. CNV+ works as a CMOS input when CNV- is grounded; otherwise, (See Datasheet)", 10 D- (out) "LVDS Data Outputs. The conversion data is output serially on these pins.", 11 D+ (out) "LVDS Data Outputs. The conversion data is output serially on these pins.", 12 VIO (power) "Input/Output Interface Supply. Use a 2.5 V supply and decouple this pin with a 100 nF capacitor.", 13 GND (power) "Ground. Return path for the 100 nF capacitor connected to Pin 12.", 14 DCO- (out) "LVDS Buffered Clock Outputs. When DCO+ is grounded, the self-clocked interface mode is selected. In this mode, the 16-bit results on D+/- are preceded by a 2-bit header (10) to allow synchronization of the data by the (See Datasheet)", 15 DCO+ (out) "LVDS Buffered Clock Outputs. When DCO+ is grounded, the self-clocked interface mode is selected. In this mode, the 16-bit results on D+/- are preceded by a 2-bit header (10) to allow synchronization of the data by the (See Datasheet)", 16 CLK- (in) "LVDS Clock Inputs. This clock shifts out the conversion results on the falling edge of CLK+.", 17 CLK+ (in) "LVDS Clock Inputs. This clock shifts out the conversion results on the falling edge of CLK+.", 18 VDD2 (power) "Analog 2.5 V Supply. Decouple this pin with a 100 nF capacitor.", 19 VDD1 (power) "Analog 5 V Supply. Isolate these pins from Pin 1 with a ferrite bead and decouple them with a 100 nF capacitor.", 20 VDD1 (power) "Analog 5 V Supply. Isolate these pins from Pin 1 with a ferrite bead and decouple them with a 100 nF capacitor.", 21 VCM (out) "Common-Mode Output. When using any reference scheme, this pin produces one-half the voltage present on the REF pin, which can be useful for driving the common mode of the input amplifiers.", 22 IN- (in) "Differential Negative Analog Input. Referenced to and must be driven 180degrees out of phase with IN+.", 23 IN+ (in) "Differential Positive Analog Input. Referenced to and must be driven 180degrees out of phase with IN-.", 24 GND (power) "Ground.", 25 CAP2 "Connect all three CAP2 pins together and decouple them with the shortest trace possible to a single 10 uF, low ESR, low ESL capacitor. The other side of the capacitor must be placed close to Pin 27 (GND).", 26 CAP2 "Connect all three CAP2 pins together and decouple them with the shortest trace possible to a single 10 uF, low ESR, low ESL capacitor. The other side of the capacitor must be placed close to Pin 27 (GND).", 27 GND (power) "Ground. Return path for the 10 uF capacitor connected to Pin 25, Pin 26, and Pin 28.", 28 CAP2 "Connect all three CAP2 pins together and decouple them with the shortest trace possible to a single 10 uF, low ESR, low ESL capacitor. The other side of the capacitor must be placed close to Pin 27 (GND).", 29 REF (io) "Buffered Reference Voltage. When using the internal reference or the 1.2 V external reference (REFIN input), the 4.096 V system reference is produced at this pin. When using an external reference, such as the ADR434 or the (See Datasheet)", 30 REF (io) "Buffered Reference Voltage. When using the internal reference or the 1.2 V external reference (REFIN input), the 4.096 V system reference is produced at this pin. When using an external reference, such as the ADR434 or the (See Datasheet)", 31 GND (power) "Ground. Return path for the 10 uF capacitor connected to Pin 29, Pin 30, and Pin 32.", 32 REF (io) "Buffered Reference Voltage. When using the internal reference or the 1.2 V external reference (REFIN input), the 4.096 V system reference is produced at this pin. When using an external reference, such as the ADR434 or the (See Datasheet)", 33 EP (power) "The exposed pad is located on the underside of the package. Connect the exposed pad to the ground plane of the PCB using multiple vias. See the Exposed Paddle section for more information."